# Altium footprint library Resistors.PcbLib: 25 footprints (part 2 of 2)
Each footprint in its own frame and in the unit in brackets; x right, y up, seen from the top. Pads: shape width x height; smd on the part's side, far side on the other; paste and mask are expansions set on the pad; w line width, h text height; cw(c..) or ccw(c..) is an arc to the next point about the centre after c.
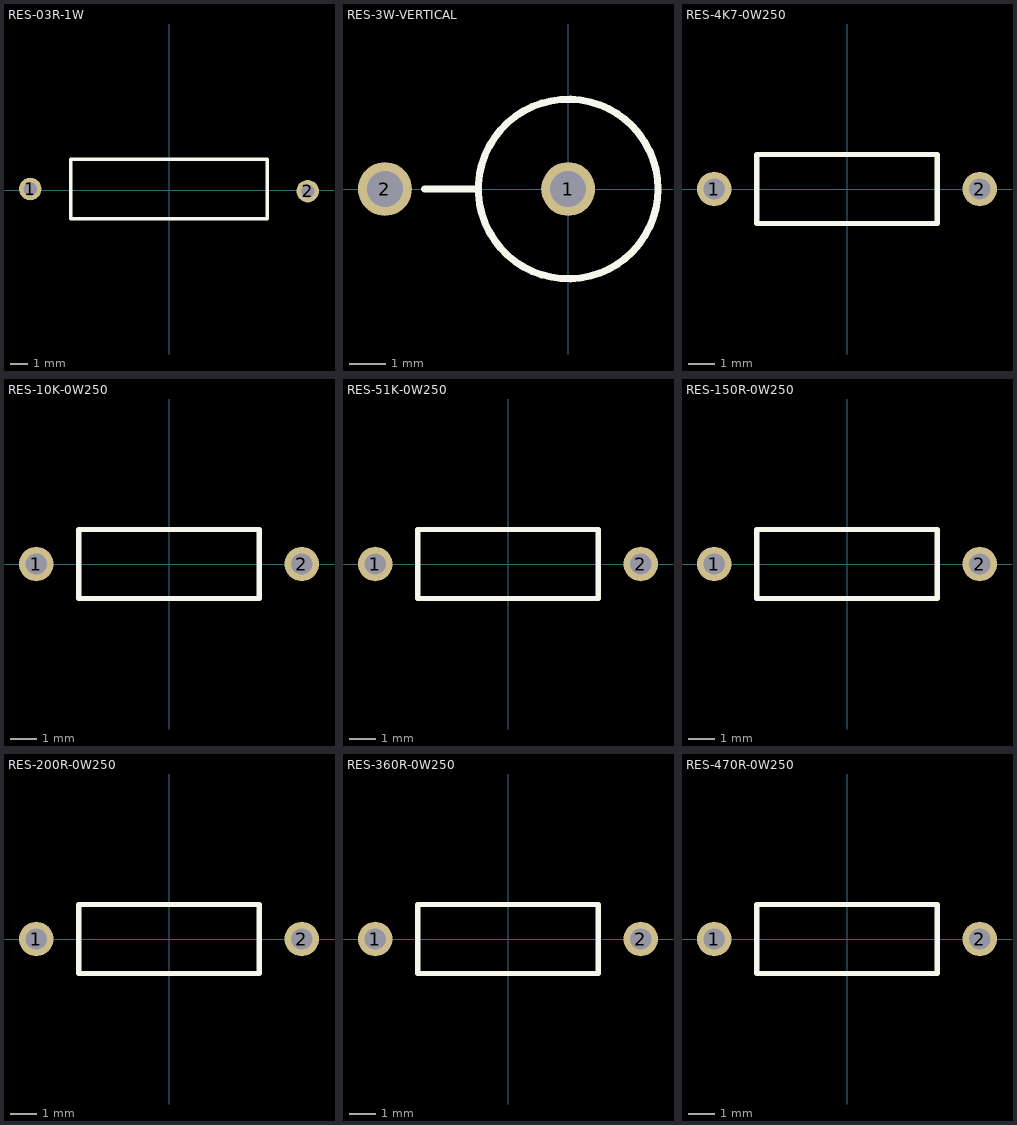
[diagram p1: the footprints below, top view; thin cyan lines are the x and y axes]

## RES-03R-1W [mm]
pads (2):
  round 1.3 hole 0.8 paste-2539.97: 1(-8.001,0.064) 2(8.001,-0.064)
Top Overlay:
  lines w0.2: -5.677,-1.651 -5.677,1.778 5.677,1.778 5.677,-1.651 -5.677,-1.651
Top Designator:
  text ".Designator" at -3.647,-0.421 h1
3D body "03R.STEP": height 4.99, standoff -2, extent -8.35,-2.064 8.35,1.937

## RES-3W-VERTICAL [mm]
pads (2):
  round 1.5 hole 1: 1(0,0) 2(-5.1,0)
Top Overlay:
  circle w0.2: c0,0 r2.5
  lines w0.2: -4,0 -2.6,0
3D body "RES_AV_3W_200mil_0R_5%.STEP": height 22.4, standoff -3.75, extent -5.48,-3.02 3.018,3.02

## RES-4K7-0W250 [mm]
pads (2):
  round 1.3 hole 0.8 paste-2539.97: 1(-5,0) 2(5,0)
Top Overlay:
  lines w0.2: -3.4,-1.3 -3.4,1.3 ; -3.4,-1.3 3.4,-1.3 ; -3.4,-1.3 3.4,-1.3 ; -3.4,-1.3 -3.4,1.3 ; -3.4,1.3 3.4,1.3 ; -3.4,1.3 3.4,1.3 ; 3.4,-1.3 3.4,1.3 ; 3.4,-1.3 3.4,1.3
Top Designator:
  text ".Designator" at -3.647,-0.357 h1
3D body "4K7.STEP": height 3.1, standoff -1.3, extent -5.303,-1.201 5.357,1.201

## RES-10K-0W250 [mm]
pads (2):
  round 1.3 hole 0.8 paste-2539.97: 1(-5,0) 2(5,0)
Top Overlay:
  lines w0.2: -3.4,-1.3 3.4,-1.3 ; -3.4,-1.3 -3.4,1.3 ; -3.4,-1.3 3.4,-1.3 ; -3.4,-1.3 -3.4,1.3 ; -3.4,1.3 3.4,1.3 ; -3.4,1.3 3.4,1.3 ; 3.4,-1.3 3.4,1.3 ; 3.4,-1.3 3.4,1.3
Top Designator:
  text ".Designator" at -3.647,-0.357 h1
3D body "10K.STEP": height 3.1, standoff -1.3, extent -5.303,-1.201 5.357,1.201

## RES-51K-0W250 [mm]
pads (2):
  round 1.3 hole 0.8 paste-2539.97: 1(-5,0) 2(5,0)
Top Overlay:
  lines w0.2: -3.4,-1.3 -3.4,1.3 ; -3.4,-1.3 3.4,-1.3 ; -3.4,-1.3 3.4,-1.3 ; -3.4,-1.3 -3.4,1.3 ; -3.4,1.3 3.4,1.3 ; -3.4,1.3 3.4,1.3 ; 3.4,-1.3 3.4,1.3 ; 3.4,-1.3 3.4,1.3
Top Designator:
  text ".Designator" at -3.647,-0.357 h1
3D body "51K.STEP": height 3.1, standoff -1.3, extent -5.303,-1.201 5.357,1.201

## RES-150R-0W250 [mm]
pads (2):
  round 1.3 hole 0.8 paste-2539.97: 1(-5,0) 2(5,0)
Top Overlay:
  lines w0.2: -3.4,-1.3 3.4,-1.3 ; -3.4,-1.3 -3.4,1.3 ; -3.4,-1.3 3.4,-1.3 ; -3.4,-1.3 -3.4,1.3 ; -3.4,1.3 3.4,1.3 ; -3.4,1.3 3.4,1.3 ; 3.4,-1.3 3.4,1.3 ; 3.4,-1.3 3.4,1.3
Top Designator:
  text ".Designator" at -3.647,-0.357 h1
3D body "150R.STEP": height 3.1, standoff -1.3, extent -5.303,-1.201 5.357,1.201

## RES-200R-0W250 [mm]
pads (2):
  round 1.3 hole 0.8 paste-2539.97: 1(-5,0) 2(5,0)
Top Overlay:
  lines w0.2: -3.4,-1.3 -3.4,1.3 ; -3.4,-1.3 3.4,-1.3 ; -3.4,-1.3 -3.4,1.3 ; -3.4,-1.3 3.4,-1.3 ; -3.4,1.3 3.4,1.3 ; -3.4,1.3 3.4,1.3 ; 3.4,-1.3 3.4,1.3 ; 3.4,-1.3 3.4,1.3
Top Designator:
  text ".Designator" at -3.647,-0.357 h1
3D body "200R.STEP": height 3.1, standoff -1.3, extent -5.303,-1.201 5.357,1.201

## RES-360R-0W250 [mm]
pads (2):
  round 1.3 hole 0.8 paste-2539.97: 1(-5,0) 2(5,0)
Top Overlay:
  lines w0.2: -3.4,-1.3 3.4,-1.3 ; -3.4,-1.3 -3.4,1.3 ; -3.4,-1.3 3.4,-1.3 ; -3.4,-1.3 -3.4,1.3 ; -3.4,1.3 3.4,1.3 ; -3.4,1.3 3.4,1.3 ; 3.4,-1.3 3.4,1.3 ; 3.4,-1.3 3.4,1.3
Top Designator:
  text ".Designator" at -3.647,-0.357 h1
3D body "360R.STEP": height 3.1, standoff -1.3, extent -5.303,-1.201 5.357,1.201

## RES-470R-0W250 [mm]
pads (2):
  round 1.3 hole 0.8 paste-2539.97: 1(-5,0) 2(5,0)
Top Overlay:
  lines w0.2: -3.4,-1.3 3.4,-1.3 ; -3.4,-1.3 -3.4,1.3 ; -3.4,-1.3 -3.4,1.3 ; -3.4,-1.3 3.4,-1.3 ; -3.4,1.3 3.4,1.3 ; -3.4,1.3 3.4,1.3 ; 3.4,-1.3 3.4,1.3 ; 3.4,-1.3 3.4,1.3
Top Designator:
  text ".Designator" at -3.647,-0.357 h1
3D body "470R.STEP": height 3.1, standoff -1.3, extent -5.303,-1.201 5.357,1.201